# Altium schematic symbol library CN PCIE 36 Card Edge.Schlib: 1 symbol
Pins are listed as number, name and electrical type; pins without a type are passive.

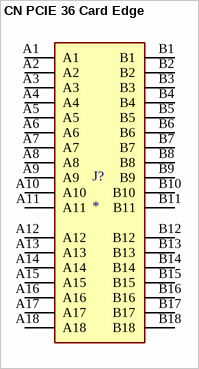
[diagram p0: symbol CN PCIE 36 Card Edge]

## CN PCIE 36 Card Edge
designator J?
36 Position Male PCIE Connector
footprint CN PCIE EDGE 36CKT (PCIE X1 36pin card edge)
pins: A1, A2, A3, A4, A5, A6, A7, A8, A9, A10, A11, A12, A13, A14, A15, A16, A17, A18, B1, B2, B3, B4, B5, B6, B7, B8, B9, B10, B11, B12, B13, B14, B15, B16, B17, B18